# Altium schematic symbol library ICs-VoltageReferences.SchLib: 1 symbol
Pins are listed as number, name and electrical type; pins without a type are passive.

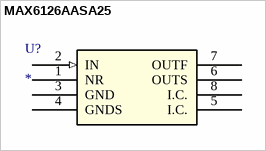
[diagram p0: symbol MAX6126AASA25]

## MAX6126AASA25
designator U?
Ultra-High-Precision, Ultra-Low-Noise, / Series Voltage Reference; PartNumber: MAX6126AASA25; Maufacturer: MAXIM; Value: 2.5V; Mounting Technology: Surface Mount; PackageReference: 8-SOIC; PackageDescription: 8-SOIC, 8-Leads, Body 5x3.9mm
footprint SOIC-8 (SOIC, 8-Leads, Body 4.90x3.90mm, Pitch 1.27mm, IPC Medium Density)
pins: 1 NR, 2 IN (in), 3 GND (power), 4 GNDS (power), 5 I.C., 6 OUTS, 7 OUTF, 8 I.C.